# Altium schematic symbol library CapSMDPolarized.SchLib: 1 symbol
Pins are listed as number, name and electrical type; pins without a type are passive.

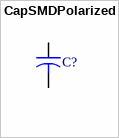
[diagram p0: symbol CapSMDPolarized]

## CapSMDPolarized
designator C?  (value not drawn)
Capacitor; PartNumber: EEU-FC1J470; Manufacturer: Panasonic; Published: 23-Sep-2002; PackageReference: CAPR5-4X5; Publisher: Altium Limited; PackageDescription: Capacitor; 2 Leads
simulation model CAP (Capacitor)
signal-integrity model Cap
footprint EEE-0JA470WR
footprint EEE-1CA471UP
pins: 1, 2